# Altium schematic symbol library MAX309CUE.SchLib: 1 symbol
Pins are listed as number, name and electrical type; pins without a type are passive.

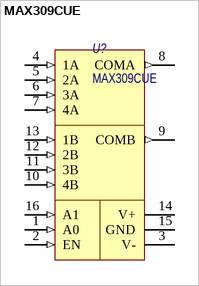
[diagram p0: symbol MAX309CUE]

## MAX309CUE
designator U?
Precision, 8-Channel/Dual 4-Channel, / High-Performance, CMOS Analog Multiplexers; Назначение: Аналоговый двухканальный мультиплексор; Потребление, Вт: 0,001; Наименование: MAX309CUE; ComponentLink1Description: DataSheet; ComponentLink1URL: *https://datasheets.maximintegrated.com/en/ds/MAX308-MAX309.pdf
footprint TSSOP-16N (TSSOP, 16-Leads, Body 5,00x4,40mm, Pitch 0,65mm, IPC Medium Density)
pins: 1 A0 (in), 2 EN (in), 3 V- (power), 4 1A (in), 5 2A (in), 6 3A (in), 7 4A (in), 8 COMA (out), 9 COMB (out), 10 4B (in), 11 3B (in), 12 2B (in), 13 1B (in), 14 V+ (power), 15 GND (power), 16 A1 (in)